# EAGLE library part DRV8835 (library balto)
Dual low voltage H-Bridge IC
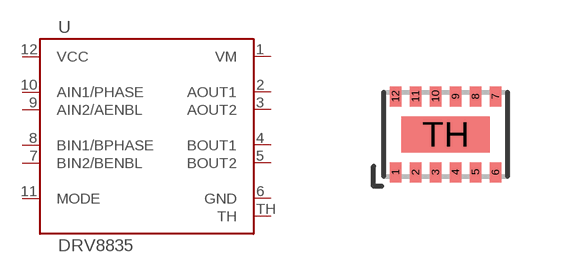
[diagram p88: symbol with the pads of 12WSON; footprint 12WSON]

Designator prefix U

## DRV8835  [12WSON]
1  VM
2  AOUT1
3  AOUT2
4  BOUT1
5  BOUT2
6  GND
7  BIN2/BENBL
8  BIN1/BPHASE
9  AIN2/AENBL
10  AIN1/PHASE
11  MODE
12  VCC
TH  TH

## Footprint 12WSON (pad centres in mm)
smd 0.28 x 0.5: 1 -1.25,-0.95; 2 -0.75,-0.95; 3 -0.25,-0.95; 4 0.25,-0.95; 5 0.75,-0.95; 6 1.25,-0.95; 7 1.25,0.95; 8 0.75,0.95; 9 0.25,0.95; 10 -0.25,0.95; 11 -0.75,0.95; 12 -1.25,0.95
smd 2.2 x 0.9: TH 0,0